# Altium schematic symbol library Diodes.SchLib: 9 symbols
Pins are listed as number, name and electrical type; pins without a type are passive.

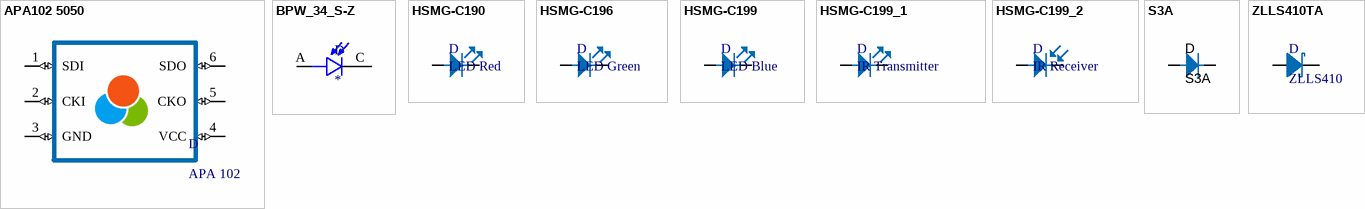
[diagram p0: symbols APA102 5050 to ZLLS410TA]

## APA102 5050
designator D, comment APA 102
LED APA 102 5050 RGB
footprint APA102 5050
pins: 1 SDI (io), 2 CKI (io), 3 GND (io), 4 VCC (io), 5 CKO (io), 6 SDO (io)

## BPW_34_S-Z
designator D
Photodiode 850nm 20ns 120Â° 2-SMD, Gull Wing; MF: OSRAM Opto; MP: BPW 34 S-Z; Availability: Unavailable; Value: *; Price: None; SnapEDA_Link: https://www.snapeda.com/parts/BPW%2034%20S-Z/OSRAM%20Opto%20Semiconductors%20Inc./view-part/895527/?ref=snap; Package: SMD-2 OSRAM Opto
footprint DIO_BPW_34_S-Z
pins: A, C

## HSMG-C190
designator D, comment LED Red
LED 0603 Red
footprint L0603 RED
pins: 1, 2

## HSMG-C196
designator D, comment LED Green
LED 0603 Green
footprint L0603 GREEN
pins: 1, 2

## HSMG-C199
designator D, comment LED Blue
LED 0603 Blue
footprint L0603 BLUE
pins: 1, 2

## HSMG-C199_1
designator D, comment IR Transmitter
IR Transmitter 0805
footprint IR DIODE 0805
pins: 1, 2

## HSMG-C199_2
designator D, comment IR Receiver
IR Receiver 0805
footprint IR DIODE 0805
pins: 1, 2

## S3A
designator D
Standard recovery diode 3A, 50V, 1.15V; Forward current: 3A; Vrrm: 50V; Forward voltage: 1.15V; Supplier 1: Farnell; Supplier Part Number 1: 1017803
footprint S3A
pins: 1, 2

## ZLLS410TA
designator D, comment ZLLS410
Schottky diode, small signal, 580mV; Supplier Part Number 1: 1843764; Supplier 1: Farnell
footprint ZLLS410
pins: 1, 2